# Altium footprint library ABS04W32768KHZ6D2T5.PcbLib: 1 footprints
Each footprint in its own frame and in the unit in brackets; x right, y up, seen from the top. Pads: shape width x height; smd on the part's side, far side on the other; paste and mask are expansions set on the pad; w line width, h text height; cw(c..) or ccw(c..) is an arc to the next point about the centre after c.
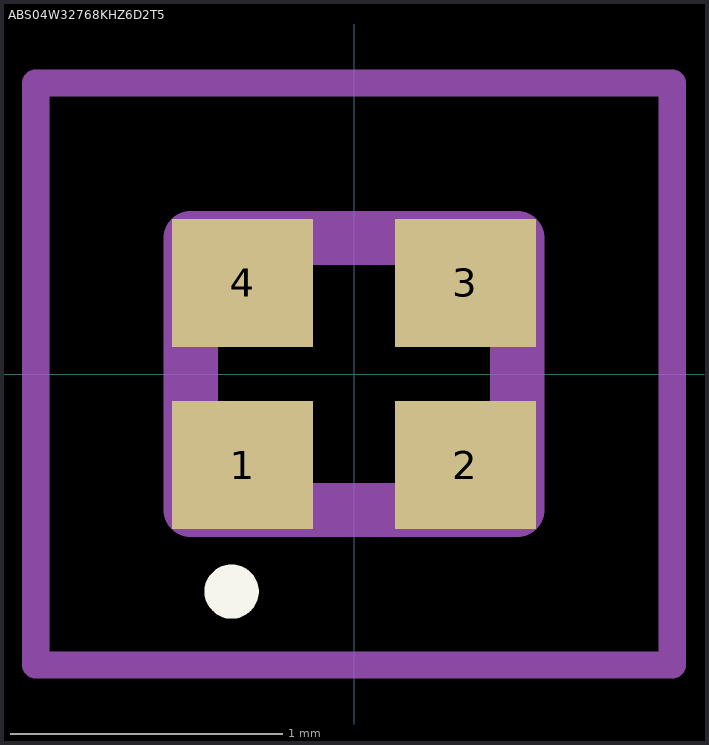
[diagram p0: the footprint, top view; thin cyan lines are the x and y axes]

## ABS04W32768KHZ6D2T5 [mm]
pads (4):
  rect 0.52x0.47 smd: 1(-0.41,-0.335) 2(0.41,-0.335) 3(0.41,0.335) 4(-0.41,0.335)
Top Overlay:
  lines w0.1: -0.5,-0.8 -0.5,-0.8 ; -0.5,-0.8 ccw(c-0.45,-0.8) -0.4,-0.8 ; -0.5,-0.8 cw(c-0.45,-0.8) -0.4,-0.8 ; -0.4,-0.8 -0.4,-0.8
Mechanical 15:
  lines w0.2: -0.6,-0.5 0.6,-0.5 0.6,0.5 -0.6,0.5 -0.6,-0.5
Mechanical 20:
  lines w0.1: -1.17,-1.07 1.17,-1.07 1.17,1.07 -1.17,1.07 -1.17,-1.07